# EAGLE library part ATMEGA163 (library atmel_prototype_header)
IC AVR MCU 16K A/D 8MHZ 44TQFP , ATMEL Part #ATMEGA163-8AI
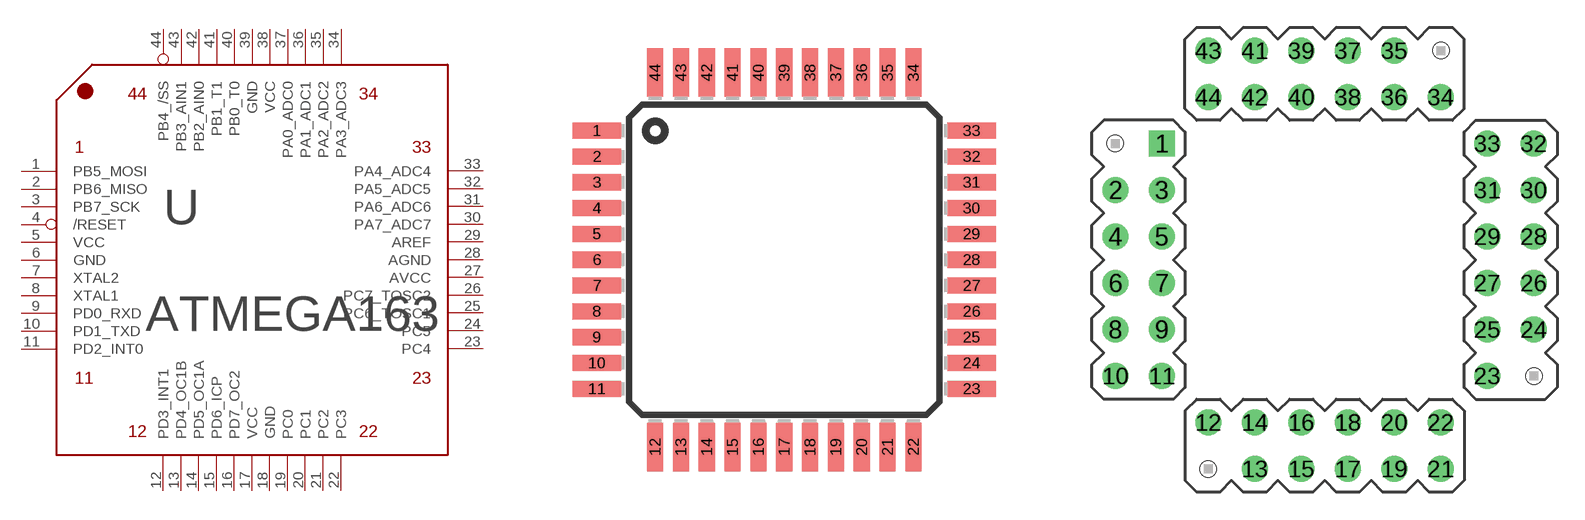
[diagram p5: symbol with the pads of TQFP-44; footprints TQFP-44, HEADER_DUALSQR44_35]

Designator prefix U

## ATMEGA163_TQFP  [TQFP-44]
1  PB5_MOSI
2  PB6_MISO
3  PB7_SCK
4  /RESET
5  VCC
6  GND
7  XTAL2
8  XTAL1
9  PD0_RXD
10  PD1_TXD
11  PD2_INT0
12  PD3_INT1
13  PD4_OC1B
14  PD5_OC1A
15  PD6_ICP
16  PD7_OC2
17  VCC
18  GND
19  PC0
20  PC1
21  PC2
22  PC3
23  PC4
24  PC5
25  PC6_TOSC1
26  PC7_TOSC2
27  AVCC
28  AGND
29  AREF
30  PA7_ADC7
31  PA6_ADC6
32  PA5_ADC5
33  PA4_ADC4
34  PA3_ADC3
35  PA2_ADC2
36  PA1_ADC1
37  PA0_ADC0
38  VCC
39  GND
40  PB0_T0
41  PB1_T1
42  PB2_AIN0
43  PB3_AIN1
44  PB4_/SS

## ATMEGA163_DUAL44_35  [HEADER_DUALSQR44_35]
Pads as for TQFP-44

## ATMEGA163_DUAL44_43  [HEADER_DUALSQR44_43]
Pads as for TQFP-44

## ATMEGA163_SINGLE44_35  [HEADER_SQR44_35]
Pads as for TQFP-44

## ATMEGA163_SINGLE44_43  [HEADER_SQR44_43]
Pads as for TQFP-44

## Footprint TQFP-44 (pad centres in mm)
smd 1.5 x 0.5: 1 -5.8,4; 2 -5.8,3.2; 3 -5.8,2.4; 4 -5.8,1.6; 5 -5.8,0.8; 6 -5.8,0; 7 -5.8,-0.8; 8 -5.8,-1.6; 9 -5.8,-2.4; 10 -5.8,-3.2; 11 -5.8,-4; 23 5.8,-4; 24 5.8,-3.2; 25 5.8,-2.4; 26 5.8,-1.6; 27 5.8,-0.8; 28 5.8,0; 29 5.8,0.8; 30 5.8,1.6; 31 5.8,2.4; 32 5.8,3.2; 33 5.8,4
smd 0.5 x 1.5: 12 -4,-5.8; 13 -3.2,-5.8; 14 -2.4,-5.8; 15 -1.6,-5.8; 16 -0.8,-5.8; 17 0,-5.8; 18 0.8,-5.8; 19 1.6,-5.8; 20 2.4,-5.8; 21 3.2,-5.8; 22 4,-5.8; 34 4,5.8; 35 3.2,5.8; 36 2.4,5.8; 37 1.6,5.8; 38 0.8,5.8; 39 0,5.8; 40 -0.8,5.8; 41 -1.6,5.8; 42 -2.4,5.8; 43 -3.2,5.8; 44 -4,5.8

## Footprint HEADER_DUALSQR44_35 (pad centres in mm)
drill 0.9 square: 1 -8.89,6.35
drill 0.9: 2 -11.43,3.81; 3 -8.89,3.81; 4 -11.43,1.27; 5 -8.89,1.27; 6 -11.43,-1.27; 7 -8.89,-1.27; 8 -11.43,-3.81; 9 -8.89,-3.81; 10 -11.43,-6.35; 11 -8.89,-6.35; 12 -6.35,-8.89; 13 -3.81,-11.43; 14 -3.81,-8.89; 15 -1.27,-11.43; 16 -1.27,-8.89; 17 1.27,-11.43; 18 1.27,-8.89; 19 3.81,-11.43; 20 3.81,-8.89; 21 6.35,-11.43; 22 6.35,-8.89; 23 8.89,-6.35; 24 11.43,-3.81; 25 8.89,-3.81; 26 11.43,-1.27; 27 8.89,-1.27; 28 11.43,1.27; 29 8.89,1.27; 30 11.43,3.81; 31 8.89,3.81; 32 11.43,6.35; 33 8.89,6.35; 34 6.35,8.89; 35 3.81,11.43; 36 3.81,8.89; 37 1.27,11.43; 38 1.27,8.89; 39 -1.27,11.43; 40 -1.27,8.89; 41 -3.81,11.43; 42 -3.81,8.89; 43 -6.35,11.43; 44 -6.35,8.89
hole 0.9 at -11.43,6.35
hole 0.9 at -6.35,-11.43
hole 0.9 at 11.43,-6.35
hole 0.9 at 6.35,11.43

## Footprint HEADER_DUALSQR44_43 (pad centres in mm)
drill 1.1 square: 1 -8.89,6.35
drill 1.1: 2 -11.43,3.81; 3 -8.89,3.81; 4 -11.43,1.27; 5 -8.89,1.27; 6 -11.43,-1.27; 7 -8.89,-1.27; 8 -11.43,-3.81; 9 -8.89,-3.81; 10 -11.43,-6.35; 11 -8.89,-6.35; 12 -6.35,-8.89; 13 -3.81,-11.43; 14 -3.81,-8.89; 15 -1.27,-11.43; 16 -1.27,-8.89; 17 1.27,-11.43; 18 1.27,-8.89; 19 3.81,-11.43; 20 3.81,-8.89; 21 6.35,-11.43; 22 6.35,-8.89; 23 8.89,-6.35; 24 11.43,-3.81; 25 8.89,-3.81; 26 11.43,-1.27; 27 8.89,-1.27; 28 11.43,1.27; 29 8.89,1.27; 30 11.43,3.81; 31 8.89,3.81; 32 11.43,6.35; 33 8.89,6.35; 34 6.35,8.89; 35 3.81,11.43; 36 3.81,8.89; 37 1.27,11.43; 38 1.27,8.89; 39 -1.27,11.43; 40 -1.27,8.89; 41 -3.81,11.43; 42 -3.81,8.89; 43 -6.35,11.43; 44 -6.35,8.89
hole 1.1 at -11.43,6.35
hole 1.1 at -6.35,-11.43
hole 1.1 at 11.43,-6.35
hole 1.1 at 6.35,11.43

## Footprint HEADER_SQR44_35 (pad centres in mm)
drill 0.889 square: 1 -15.24,12.7
drill 0.889: 2 -15.24,10.16; 3 -15.24,7.62; 4 -15.24,5.08; 5 -15.24,2.54; 6 -15.24,0; 7 -15.24,-2.54; 8 -15.24,-5.08; 9 -15.24,-7.62; 10 -15.24,-10.16; 11 -15.24,-12.7; 12 -12.7,-15.24; 13 -10.16,-15.24; 14 -7.62,-15.24; 15 -5.08,-15.24; 16 -2.54,-15.24; 17 0,-15.24; 18 2.54,-15.24; 19 5.08,-15.24; 20 7.62,-15.24; 21 10.16,-15.24; 22 12.7,-15.24; 23 15.24,-12.7; 24 15.24,-10.16; 25 15.24,-7.62; 26 15.24,-5.08; 27 15.24,-2.54; 28 15.24,0; 29 15.24,2.54; 30 15.24,5.08; 31 15.24,7.62; 32 15.24,10.16; 33 15.24,12.7; 34 12.7,15.24; 35 10.16,15.24; 36 7.62,15.24; 37 5.08,15.24; 38 2.54,15.24; 39 0,15.24; 40 -2.54,15.24; 41 -5.08,15.24; 42 -7.62,15.24; 43 -10.16,15.24; 44 -12.7,15.24

## Footprint HEADER_SQR44_43 (pad centres in mm)
drill 1.1 square: 1 -15.24,12.7
drill 1.1: 2 -15.24,10.16; 3 -15.24,7.62; 4 -15.24,5.08; 5 -15.24,2.54; 6 -15.24,0; 7 -15.24,-2.54; 8 -15.24,-5.08; 9 -15.24,-7.62; 10 -15.24,-10.16; 11 -15.24,-12.7; 12 -12.7,-15.24; 13 -10.16,-15.24; 14 -7.62,-15.24; 15 -5.08,-15.24; 16 -2.54,-15.24; 17 0,-15.24; 18 2.54,-15.24; 19 5.08,-15.24; 20 7.62,-15.24; 21 10.16,-15.24; 22 12.7,-15.24; 23 15.24,-12.7; 24 15.24,-10.16; 25 15.24,-7.62; 26 15.24,-5.08; 27 15.24,-2.54; 28 15.24,0; 29 15.24,2.54; 30 15.24,5.08; 31 15.24,7.62; 32 15.24,10.16; 33 15.24,12.7; 34 12.7,15.24; 35 10.16,15.24; 36 7.62,15.24; 37 5.08,15.24; 38 2.54,15.24; 39 0,15.24; 40 -2.54,15.24; 41 -5.08,15.24; 42 -7.62,15.24; 43 -10.16,15.24; 44 -12.7,15.24